# EAGLE library part MAX548X (library SensorCape)
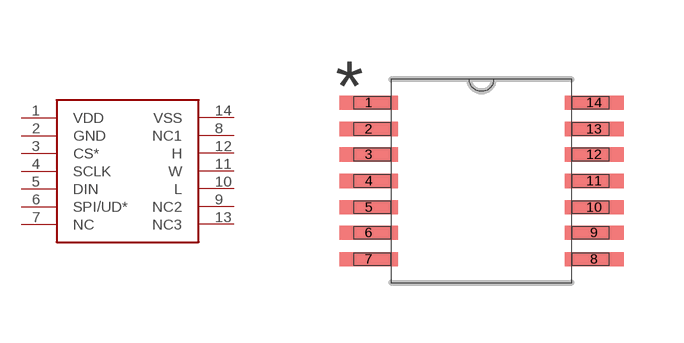
[diagram p18: symbol with the pads of TSSOP14_MC; footprint TSSOP14_MC]

Designator prefix -

## MAX548X  [TSSOP14_MC]
1  VDD  pas
2  GND  pas
3  CS*  pas
4  SCLK  pas
5  DIN  pas
6  SPI/UD*  pas
7  NC  pas
8  NC1  pas
9  NC2  pas
10  L  pas
11  W  pas
12  H  pas
13  NC3  pas
14  VSS  pas

## Footprint TSSOP14_MC (pad centres in mm)
smd 1.473 x 0.356: 1 -2.819,1.956; 2 -2.819,1.295; 3 -2.819,0.66; 4 -2.819,0; 5 -2.819,-0.66; 6 -2.819,-1.295; 7 -2.819,-1.956; 8 2.819,-1.956; 9 2.819,-1.295; 10 2.819,-0.66; 11 2.819,0; 12 2.819,0.66; 13 2.819,1.295; 14 2.819,1.956